# Altium footprint library EEUFR1H100.PcbLib: 1 footprints
Each footprint in its own frame and in the unit in brackets; x right, y up, seen from the top. Pads: shape width x height; smd on the part's side, far side on the other; paste and mask are expansions set on the pad; w line width, h text height; cw(c..) or ccw(c..) is an arc to the next point about the centre after c.
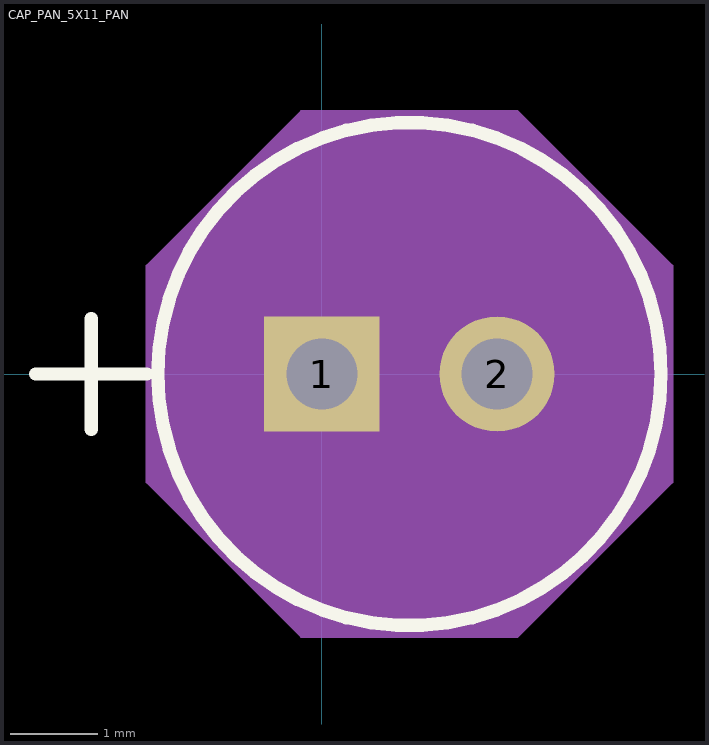
[diagram p0: the footprint, top view; thin cyan lines are the x and y axes]

## CAP_PAN_5X11_PAN [mil]
pads (2):
  rect 52x52 hole 32 paste-26 mask+0: 1(0,0)
  round 52 hole 32 paste-26 mask+0: 2(79,0)
Top Overlay:
  circle w6: c39.5,0 r113.5
  lines w6: -129,0 -79,0 ; -104,-25 -104,25
  text ".Designator" at -98,-25 h50
Mechanical 13:
  circle w1: c39.5,0 r108.5
  lines w1: -129,0 -79,0 ; -104,-25 -104,25
  text ".Designator" at -98,-25 h50
Mechanical 15:
  region: -79,48.79 -9.29,118.5 88.29,118.5 158,48.79 158,-48.79 88.29,-118.5 -9.29,-118.5 -79,-48.79
  lines w1: -79,-48.79 -9.29,-118.5 88.29,-118.5 158,-48.79 158,48.79 88.29,118.5 -9.29,118.5 -79,48.79 -79,-48.79
3D body "CAP_PAN_5X11_PAN.step": height 472.6, standoff -165.98, extent -69.02,-108.38 149.19,108.38